# Altium footprint library 691 216 710 0xx.PcbLib: 2 footprints
Each footprint in its own frame and in the unit in brackets; x right, y up, seen from the top. Pads: shape width x height; smd on the part's side, far side on the other; paste and mask are expansions set on the pad; w line width, h text height; cw(c..) or ccw(c..) is an arc to the next point about the centre after c.
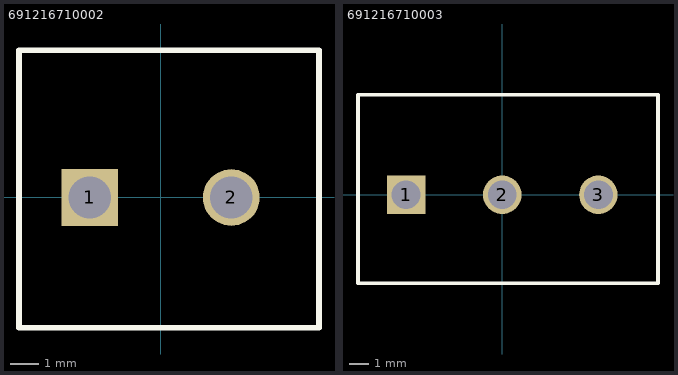
[diagram p0: the footprints below, top view; thin cyan lines are the x and y axes]

## 691216710002 [mm] "Serie 2167 - 5.00 mm _ 2 pins"
height 13.8
pads (2):
  rect 2x2 hole 1.5: 1(-2.5,0)
  round 2 hole 1.5: 2(2.5,0)
Top Overlay:
  lines w0.2: -5,-4.6 -5,5.2 5.6,5.2 5.6,-4.6 -5,-4.6
3D body: height 13.85, standoff -3.45, extent -5,-4.6 5.6,5.2

## 691216710003 [mm] "Serie 2167 - 5.00 mm _ 3 pins"
height 13.8
pads (3):
  rect 2x2 hole 1.5: 1(-5,0)
  round 2 hole 1.5: 2(0,0) 3(5,0)
Top Overlay:
  lines w0.2: -7.5,-4.6 -7.5,5.2 8.1,5.2 8.1,-4.6 -7.5,-4.6
3D body: height 13.85, standoff -3.45, extent -7.5,-4.55 8.1,5.25